# Altium schematic symbol library LTC1733EMSEPBF.SchLib: 1 symbol
Pins are listed as number, name and electrical type; pins without a type are passive.

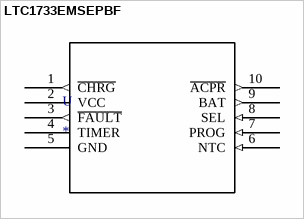
[diagram p0: symbol LTC1733EMSEPBF]

## LTC1733EMSEPBF
designator U
LTC1733 - Monolithic Linear Lithium-Ion Battery Charger with Thermal Regulation; MP: LTC1733EMSE#PBF; MF: Linear Technology/Analog; SnapEDA_Link: https://www.snapeda.com/parts/LTC1733EMSE%23PBF/Analog%20Devices/view-part/340509/?ref=snap; Value: *; Package: MSOP-10 Linear Technology
footprint MSOP-10_MSE
pins: 1 ~{CHRG} (out), 2 VCC (power), 3 ~{FAULT} (out), 4 TIMER, 5 GND (power), 6 NTC (in), 7 PROG (in), 8 SEL (in), 9 BAT (out), 10 ~{ACPR} (out)